# Altium integrated library WE-PoEH Power over Ethernet High Power Transformer.IntLib: 12 symbols
Pins are listed as number, name and electrical type; pins without a type are passive.

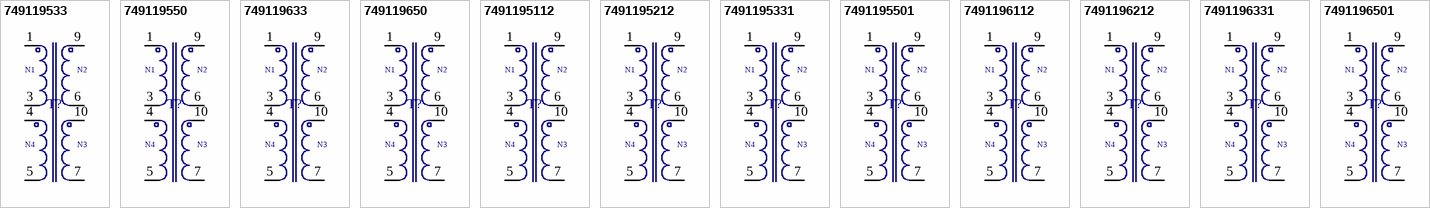
[diagram p0: symbols 749119533 to 7491196501]

## 749119533
designator T?
SMD FLYBACK-Transformers, WE-PoEH, L=54 µH; PartNumber: 749119533; Inductance: 54 µH; Output Current Total: 2 x 3.5A; Turns Ratio: 8; Output votage Total: 3.3V; PackageReference: WE-PoEH EPQ13; ComponentLink1Description: Manufacturer URL; ComponentLink1URL: http://www.we-online.com; ComponentLink2Description: Datasheet; ComponentLink2URL: http://katalog.we-online.de/pbs/datasheet/749119533.pdf
footprint WE-PoEH EPQ13 (SMD Transformer,10Pin,Body 17.9 x14.0 mm)
pins: 1, 3, 4, 5, 6, 7, 9, 10
text: N1; N2; N4; N3

## 749119550
designator T?
SMD FLYBACK-Transformers, WE-PoEH, L=48 µH; PartNumber: 749119550; Inductance: 48 µH; Output Current Total: 2 x 3.0A; Turns Ratio: 5.33; Output votage Total: 5V; PackageReference: WE-PoEH EPQ13; ComponentLink1Description: Manufacturer URL; ComponentLink1URL: http://www.we-online.com; ComponentLink2Description: Datasheet; ComponentLink2URL: http://katalog.we-online.de/pbs/datasheet/749119550.pdf
footprint WE-PoEH EPQ13 (SMD Transformer,10Pin,Body 17.9 x14.0 mm)
pins: 1, 3, 4, 5, 6, 7, 9, 10
text: N1; N2; N4; N3

## 749119633
designator T?
SMD FLYBACK-Transformers, WE-PoEH, L=100 µH; PartNumber: 749119633; Inductance: 100 µH; Output Current Total: 2 x 8A; Turns Ratio: 6; Output votage Total: 3.3V; PackageReference: WE-PoEH EPQ13; ComponentLink1Description: Manufacturer URL; ComponentLink1URL: http://www.we-online.com; ComponentLink2Description: Datasheet; ComponentLink2URL: http://katalog.we-online.de/pbs/datasheet/749119633.pdf
footprint WE-PoEH EPQ13 (SMD Transformer,10Pin,Body 17.9 x14.0 mm)
pins: 1, 3, 4, 5, 6, 7, 9, 10
text: N1; N2; N4; N3

## 749119650
designator T?
SMD FLYBACK-Transformers, WE-PoEH, L=100 µH; PartNumber: 749119650; Inductance: 100 µH; Output Current Total: 2 x 7A; Turns Ratio: 4; Output votage Total: 5V; PackageReference: WE-PoEH EPQ13; ComponentLink1Description: Manufacturer URL; ComponentLink1URL: http://www.we-online.com; ComponentLink2Description: Datasheet; ComponentLink2URL: http://katalog.we-online.de/pbs/datasheet/749119650.pdf
footprint WE-PoEH EPQ13 (SMD Transformer,10Pin,Body 17.9 x14.0 mm)
pins: 1, 3, 4, 5, 6, 7, 9, 10
text: N1; N2; N4; N3

## 7491195112
designator T?
SMD FLYBACK-Transformers, WE-PoEH, L=41 µH; PartNumber: 7491195112; Inductance: 41 µH; Output Current Total: 2 x 1.5A; Turns Ratio: 2.67; Output votage Total: 12V; PackageReference: WE-PoEH EPQ13; ComponentLink1Description: Manufacturer URL; ComponentLink1URL: http://www.we-online.com; ComponentLink2Description: Datasheet; ComponentLink2URL: http://katalog.we-online.de/pbs/datasheet/7491195112.pdf
footprint WE-PoEH EPQ13 (SMD Transformer,10Pin,Body 17.9 x14.0 mm)
pins: 1, 3, 4, 5, 6, 7, 9, 10
text: N1; N2; N4; N3

## 7491195212
designator T?
SMD FLYBACK-Transformers, WE-PoEH, L=21 µH; PartNumber: 7491195212; Inductance: 21 µH; Output Current Total: 2 x 1A; Turns Ratio: 1.33; Output votage Total: 12V; PackageReference: WE-PoEH EPQ13; ComponentLink1Description: Manufacturer URL; ComponentLink1URL: http://www.we-online.com; ComponentLink2Description: Datasheet; ComponentLink2URL: http://katalog.we-online.de/pbs/datasheet/7491195212.pdf
footprint WE-PoEH EPQ13 (SMD Transformer,10Pin,Body 17.9 x14.0 mm)
pins: 1, 3, 4, 5, 6, 7, 9, 10
text: N1; N2; N4; N3

## 7491195331
designator T?
SMD FLYBACK-Transformers, WE-PoEH, L=21 µH; PartNumber: 7491195331; Inductance: 21 µH; Output Current Total: 2 x 3.2A; Turns Ratio: 4; Output votage Total: 3.3V; PackageReference: WE-PoEH EPQ13; ComponentLink1Description: Manufacturer URL; ComponentLink1URL: http://www.we-online.com; ComponentLink2Description: Datasheet; ComponentLink2URL: http://katalog.we-online.de/pbs/datasheet/7491195331.pdf
footprint WE-PoEH EPQ13 (SMD Transformer,10Pin,Body 17.9 x14.0 mm)
pins: 1, 3, 4, 5, 6, 7, 9, 10
text: N1; N2; N4; N3

## 7491195501
designator T?
SMD FLYBACK-Transformers, WE-PoEH, L=21 µH; PartNumber: 7491195501; Inductance: 21 µH; Output Current Total: 2 x 2.2A; Turns Ratio: 3; Output votage Total: 5V; PackageReference: WE-PoEH EPQ13; ComponentLink1Description: Manufacturer URL; ComponentLink1URL: http://www.we-online.com; ComponentLink2Description: Datasheet; ComponentLink2URL: http://katalog.we-online.de/pbs/datasheet/7491195501.pdf
footprint WE-PoEH EPQ13 (SMD Transformer,10Pin,Body 17.9 x14.0 mm)
pins: 1, 3, 4, 5, 6, 7, 9, 10
text: N1; N2; N4; N3

## 7491196112
designator T?
SMD FLYBACK-Transformers, WE-PoEH, L=100 µH; PartNumber: 7491196112; Inductance: 100 µH; Output Current Total: 2 x 2.5A; Turns Ratio: 1.71; Output votage Total: 12V; PackageReference: WE-PoEH EPQ13; ComponentLink1Description: Manufacturer URL; ComponentLink1URL: http://www.we-online.com; ComponentLink2Description: Datasheet; ComponentLink2URL: http://katalog.we-online.de/pbs/datasheet/7491196112.pdf
footprint WE-PoEH EPQ13 (SMD Transformer,10Pin,Body 17.9 x14.0 mm)
pins: 1, 3, 4, 5, 6, 7, 9, 10
text: N1; N2; N4; N3

## 7491196212
designator T?
SMD FLYBACK-Transformers, WE-PoEH, L=128 µH; PartNumber: 7491196212; Inductance: 128 µH; Output Current Total: 2 x 1.6A; Turns Ratio: 0.47; Output votage Total: 12V; PackageReference: WE-PoEH EPQ13; ComponentLink1Description: Manufacturer URL; ComponentLink1URL: http://www.we-online.com; ComponentLink2Description: Datasheet; ComponentLink2URL: http://katalog.we-online.de/pbs/datasheet/7491196212.pdf
footprint WE-PoEH EPQ13 (SMD Transformer,10Pin,Body 17.9 x14.0 mm)
pins: 1, 3, 4, 5, 6, 7, 9, 10
text: N1; N2; N4; N3

## 7491196331
designator T?
SMD FLYBACK-Transformers, WE-PoEH, L=128 µH; PartNumber: 7491196331; Inductance: 128 µH; Output Current Total: 2 x 5.5A; Turns Ratio: 3.2; Output votage Total: 3.3V; PackageReference: WE-PoEH EPQ13; ComponentLink1Description: Manufacturer URL; ComponentLink1URL: http://www.we-online.com; ComponentLink2Description: Datasheet; ComponentLink2URL: http://katalog.we-online.de/pbs/datasheet/7491196331.pdf
footprint WE-PoEH EPQ13 (SMD Transformer,10Pin,Body 17.9 x14.0 mm)
pins: 1, 3, 4, 5, 6, 7, 9, 10
text: N1; N2; N4; N3

## 7491196501
designator T?
SMD FLYBACK-Transformers, WE-PoEH, L=128 µH; PartNumber: 7491196501; Inductance: 128 µH; Output Current Total: 2 x 3.5A; Turns Ratio: 1.14; Output votage Total: 5V; PackageReference: WE-PoEH EPQ13; ComponentLink1Description: Manufacturer URL; ComponentLink1URL: http://www.we-online.com; ComponentLink2Description: Datasheet; ComponentLink2URL: http://katalog.we-online.de/pbs/datasheet/7491196501.pdf
footprint WE-PoEH EPQ13 (SMD Transformer,10Pin,Body 17.9 x14.0 mm)
pins: 1, 3, 4, 5, 6, 7, 9, 10
text: N1; N2; N4; N3